# Altium footprint library Devices.PcbLib: 190 footprints (part 7 of 12)
Each footprint in its own frame and in the unit in brackets; x right, y up, seen from the top. Pads: shape width x height; smd on the part's side, far side on the other; paste and mask are expansions set on the pad; w line width, h text height; cw(c..) or ccw(c..) is an arc to the next point about the centre after c.
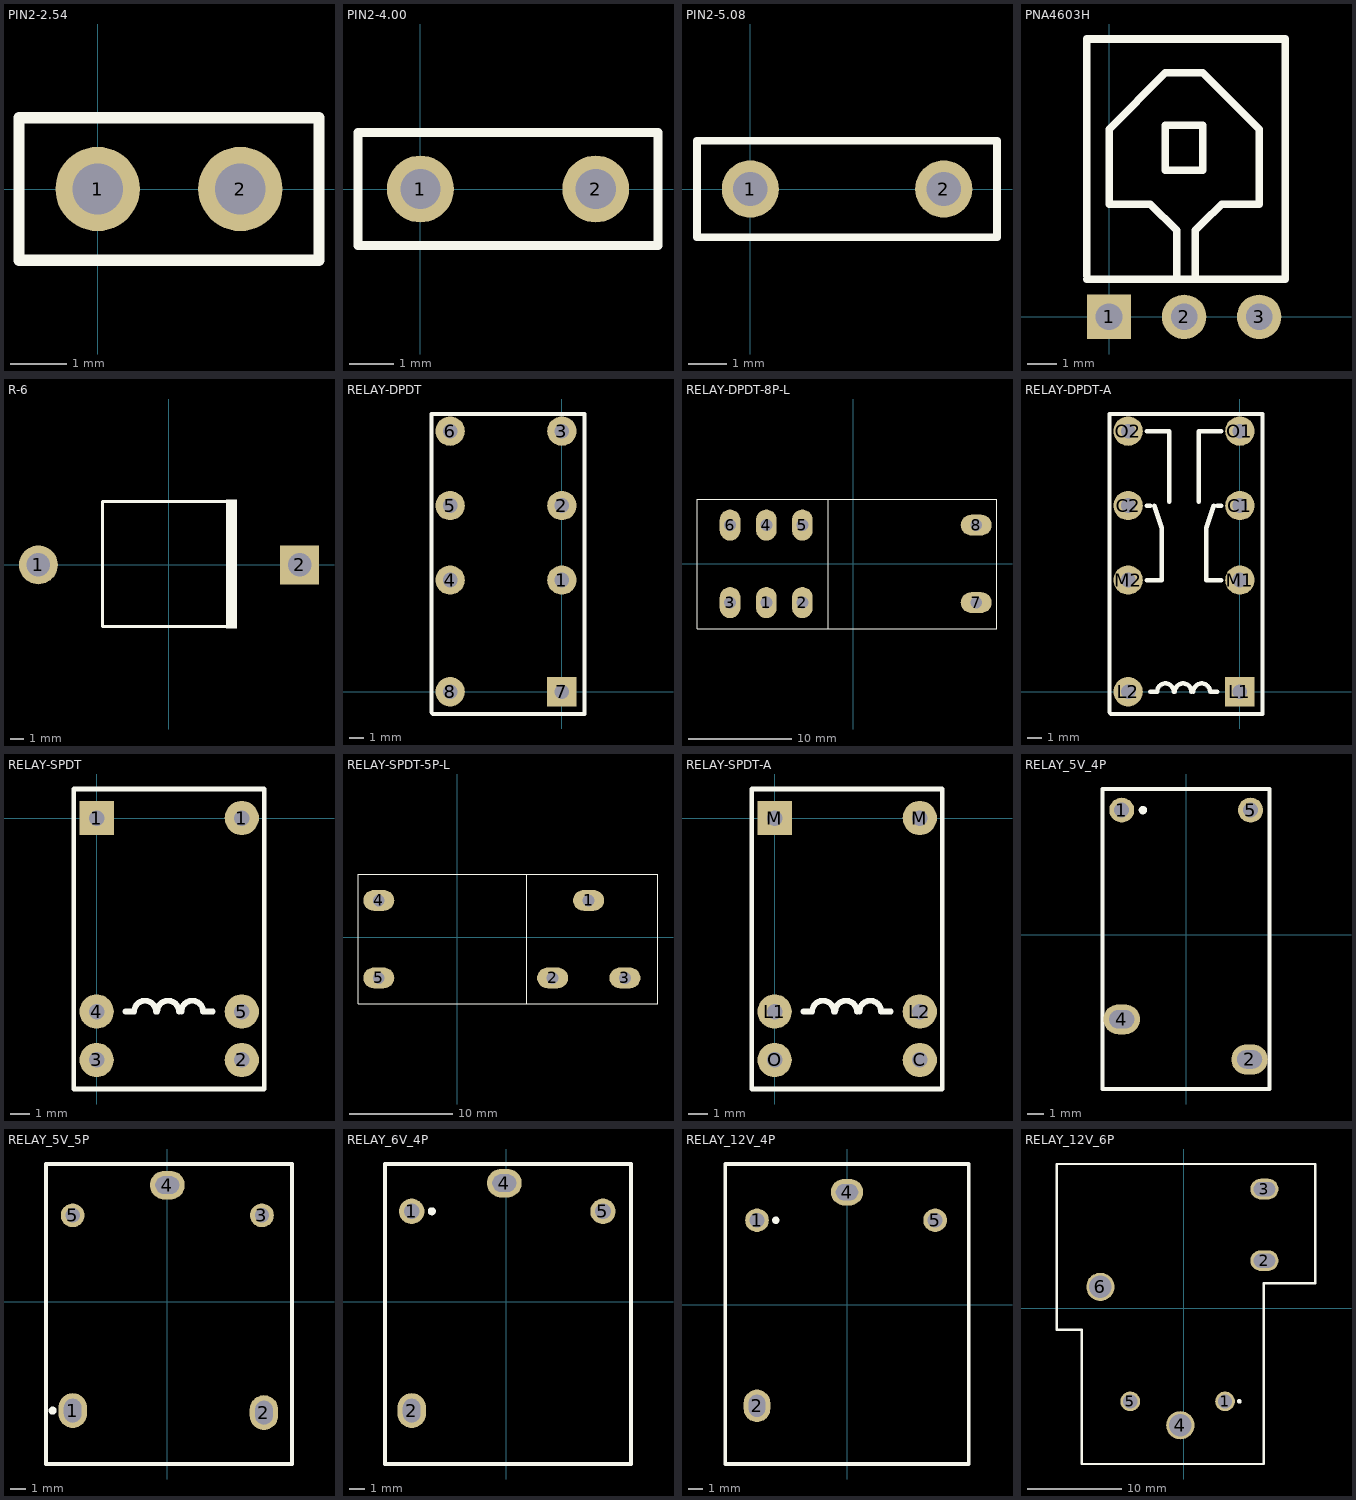
[diagram p6: the footprints below, top view; thin cyan lines are the x and y axes]

## PIN2-2.54 [mm] "湿敏电阻、低压瓷片电容"
pads (2):
  round 1.5 hole 0.9: 1(0,0) 2(2.54,0)
Top Overlay:
  lines w0.2: -1.4,-1.27 -1.4,1.27 3.94,1.27 3.94,-1.27 -1.4,-1.27

## PIN2-4.00 [mm] "涤纶电容"
pads (2):
  round 1.5 hole 0.9: 1(0,0) 2(3.937,0)
Top Overlay:
  lines w0.2: -1.4,-1.27 -1.4,1.27 5.334,1.27 5.334,-1.27 -1.4,-1.27

## PIN2-5.08 [mm] "独石、涤纶、高压瓷片及黄色校正电容"
pads (2):
  round 1.5 hole 0.9: 1(0,0) 2(5.08,0)
Top Overlay:
  lines w0.2: -1.4,-1.27 6.477,-1.27 6.477,1.27 -1.4,1.27 -1.4,-1.27

## PNA4603H [mm]
pads (3):
  rect 1.5x1.5 hole 0.9: 1(0,0)
  round 1.5 hole 0.9: 2(2.54,0) 3(5.08,0)
Top Overlay:
  lines w0.254: -0.762,1.27 5.969,1.27 5.969,9.398 -0.762,9.398 -0.762,1.397 ; 2.286,1.27 2.286,2.921 1.397,3.81 1.27,3.81 0,3.81 0,6.35 1.905,8.255 3.175,8.255 5.08,6.35 5.08,3.81 3.81,3.81 3.175,3.175 2.921,2.921 2.921,1.27 ; 1.905,4.953 1.905,6.477 3.175,6.477 3.175,4.953 1.905,4.953

## R-6 [mm]
pads (2):
  round 2.8 hole 1.7: 1(-9.42,0)
  rect 2.8x2.8 hole 1.7: 2(9.42,0)
Top Overlay:
  rectangle: 4.1,-4.572 4.9,4.699
  lines w0.2: 4.445,-4.445 -4.8,-4.445 -4.8,4.572 4.445,4.572

## RELAY-DPDT [mm]
pads (8):
  round 2 hole 1: 1(0,7.62) 2(0,12.7) 3(0,17.78) 4(-7.62,7.62) 5(-7.62,12.7) 6(-7.62,17.78) 8(-7.62,0)
  rect 2x2 hole 1: 7(0,0)
Top Overlay:
  lines w0.3: -8.894,-1.414 -8.894,18.948 1.52,18.948 1.55,18.918 1.55,18.41 1.55,-1.52 -8.45,-1.52 -8.788,-1.52

## RELAY-DPDT-8P-L [mil]
pads (8):
  oval 79x118 hole 45: 1(-330.5,-147.5) 2(-193.5,-147.5) 3(-468.5,-147.5) 4(-330.5,147.5) 5(-193.5,147.5) 6(-468.5,147.5)
  oval 118x79 hole 45: 7(468.5,-147.5) 8(468.5,147.5)
Top Overlay:
  lines w4: -94.5,-246.5 -94.5,245.5 ; -594.5,-246.5 547.5,-246.5 547.5,245.5 -594.5,245.5 -594.5,-246.5

## RELAY-DPDT-A [mm]
pads (8):
  round 2 hole 1: C1(0,12.7) C2(-7.62,12.7) L2(-7.62,0) M1(0,7.62) M2(-7.62,7.62) O1(0,17.78) O2(-7.62,17.78)
  rect 2x2 hole 1: L1(0,0)
Top Overlay:
  lines w0.3: -8.894,-1.414 -8.894,18.948 1.52,18.948 1.55,18.918 1.55,18.41 1.55,-1.52 -8.45,-1.52 -8.788,-1.52
  lines w0.305: -6.35,7.62 -5.334,7.62 -5.334,11.176 -5.842,12.7 ; -6.35,12.7 -6.096,12.7 ; -6.35,17.78 -4.826,17.78 -4.826,12.954 ; -6.096,0 -5.648,0 cw(c-5.08,0) -4.512,0 ; -4.438,0 cw(c-3.87,0) -3.302,0 ; -3.168,0 cw(c-2.6,0) -2.032,0 -1.524,0 ; -2.794,12.954 -2.794,17.78 -1.27,17.78 ; -1.778,12.7 -2.286,11.176 -2.286,7.62 -1.27,7.62 ; -1.524,12.7 -1.27,12.7

## RELAY-SPDT [mm]
pads (6):
  rect 1.8x1.8 hole 0.813: 1(0,0)
  round 1.8 hole 0.813: 1(7.62,0) 2(7.62,-12.7) 3(0,-12.7) 4(0,-10.16) 5(7.62,-10.16)
Top Overlay:
  lines w0.254: -1.2,-14.224 -1.2,1.524 8.8,1.524 8.8,-14.224 -1.2,-14.224
  lines w0.305: 1.524,-10.16 1.972,-10.16 cw(c2.54,-10.16) 3.108,-10.16 ; 3.182,-10.16 cw(c3.75,-10.16) 4.318,-10.16 ; 4.452,-10.16 cw(c5.02,-10.16) 5.588,-10.16 6.096,-10.16

## RELAY-SPDT-5P-L [mil]
pads (5):
  oval 118x79 hole 45: 1(500,140) 2(363,-155) 3(638,-155) 4(-299,140) 5(-299,-155)
Top Overlay:
  lines w4: 264,-253 264,239 ; -378,-253 764,-253 764,239 -378,239 -378,-253

## RELAY-SPDT-A [mm]
pads (6):
  round 1.8 hole 0.813: C(7.62,-12.7) L1(0,-10.16) L2(7.62,-10.16) M(7.62,0) O(0,-12.7)
  rect 1.8x1.8 hole 0.813: M(0,0)
Top Overlay:
  lines w0.254: -1.2,-14.224 -1.2,1.524 8.8,1.524 8.8,-14.224 -1.2,-14.224
  lines w0.305: 1.524,-10.16 1.972,-10.16 cw(c2.54,-10.16) 3.108,-10.16 ; 3.182,-10.16 cw(c3.75,-10.16) 4.318,-10.16 ; 4.452,-10.16 cw(c5.02,-10.16) 5.588,-10.16 6.096,-10.16

## RELAY_5V_4P [mm] "15.4mm x 19.1mm"
height 15.7
pads (4):
  round 1.5 hole 0.9: 1(-3.873,7.493) 5(3.873,7.493)
  oval 2.2x1.8 hole 1.5 slot 1.1 at 90 deg: 2(3.81,-7.493) 4(-3.873,-5.08)
Top Overlay:
  circle w0.25: c-2.602,7.493 r0.125
  lines w0.254: -5.037,-9.271 -5.037,8.763 5.016,8.763 5.016,-9.271 -5.037,-9.271

## RELAY_5V_5P [mm] "15.4mm x 19.1mm"
height 15.7
pads (5):
  oval 1.8x2.2 hole 1.1 slot 1.5 at 90 deg: 1(-5.969,-6.858) 2(6.096,-6.985)
  round 1.5 hole 0.9: 3(5.969,5.461) 5(-5.969,5.461)
  oval 2.2x1.8 hole 1.5 slot 1.1 at 90 deg: 4(0,7.366)
Top Overlay:
  circle w0.25: c-7.237,-6.858 r0.125
  lines w0.254: -7.64,-10.225 -7.64,8.698 7.854,8.698 7.854,-10.225 -7.64,-10.225

## RELAY_6V_4P [mm] "15.4mm x 19.1mm"
height 15.7
pads (4):
  round 1.6 hole 1: 1(-5.969,5.715) 5(6.096,5.715)
  oval 1.8x2.2 hole 1.1 slot 1.5 at 90 deg: 2(-5.969,-6.858)
  oval 2.2x1.8 hole 1.5 slot 1.1 at 90 deg: 4(-0.127,7.493)
Top Overlay:
  circle w0.25: c-4.697,5.715 r0.125
  lines w0.254: -7.64,-10.225 -7.64,8.698 7.854,8.698 7.854,-10.225 -7.64,-10.225

## RELAY_12V_4P [mm] "15.4mm x 19.1mm"
height 15.7
pads (4):
  round 1.6 hole 1: 1(-6.096,5.715) 5(5.969,5.715)
  oval 1.8x2.2 hole 1.1 slot 1.5 at 90 deg: 2(-6.096,-6.858)
  oval 2.2x1.8 hole 1.5 slot 1.1 at 90 deg: 4(0,7.62)
Top Overlay:
  circle w0.25: c-4.824,5.715 r0.125
  lines w0.254: -8.255,-10.795 8.255,-10.795 8.255,9.525 -8.255,9.525 -8.255,-10.795

## RELAY_12V_6P [mm] "15.4mm x 19.1mm"
height 15.7
pads (6):
  round 2.1 hole 1.5: 1(4.381,-9.906) 5(-5.715,-9.906)
  oval 3x2.2 hole 2.3 slot 1.5 at 90 deg: 2(8.572,5.08) 3(8.572,12.7)
  round 3 hole 2.4: 4(-0.381,-12.446) 6(-8.89,2.286)
Top Overlay:
  circle w0.25: c5.907,-9.906 r0.125
  lines w0.254: -13.525,15.24 -13.525,-2.286 -10.858,-2.286 -10.858,-16.575 8.509,-16.575 8.509,2.667 13.97,2.667 13.97,15.367 -13.525,15.367